# Altium footprint library CHXXX.pcblib: 121 footprints (part 4 of 8)
Each footprint in its own frame and in the unit in brackets; x right, y up, seen from the top. Pads: shape width x height; smd on the part's side, far side on the other; paste and mask are expansions set on the pad; w line width, h text height; cw(c..) or ccw(c..) is an arc to the next point about the centre after c.
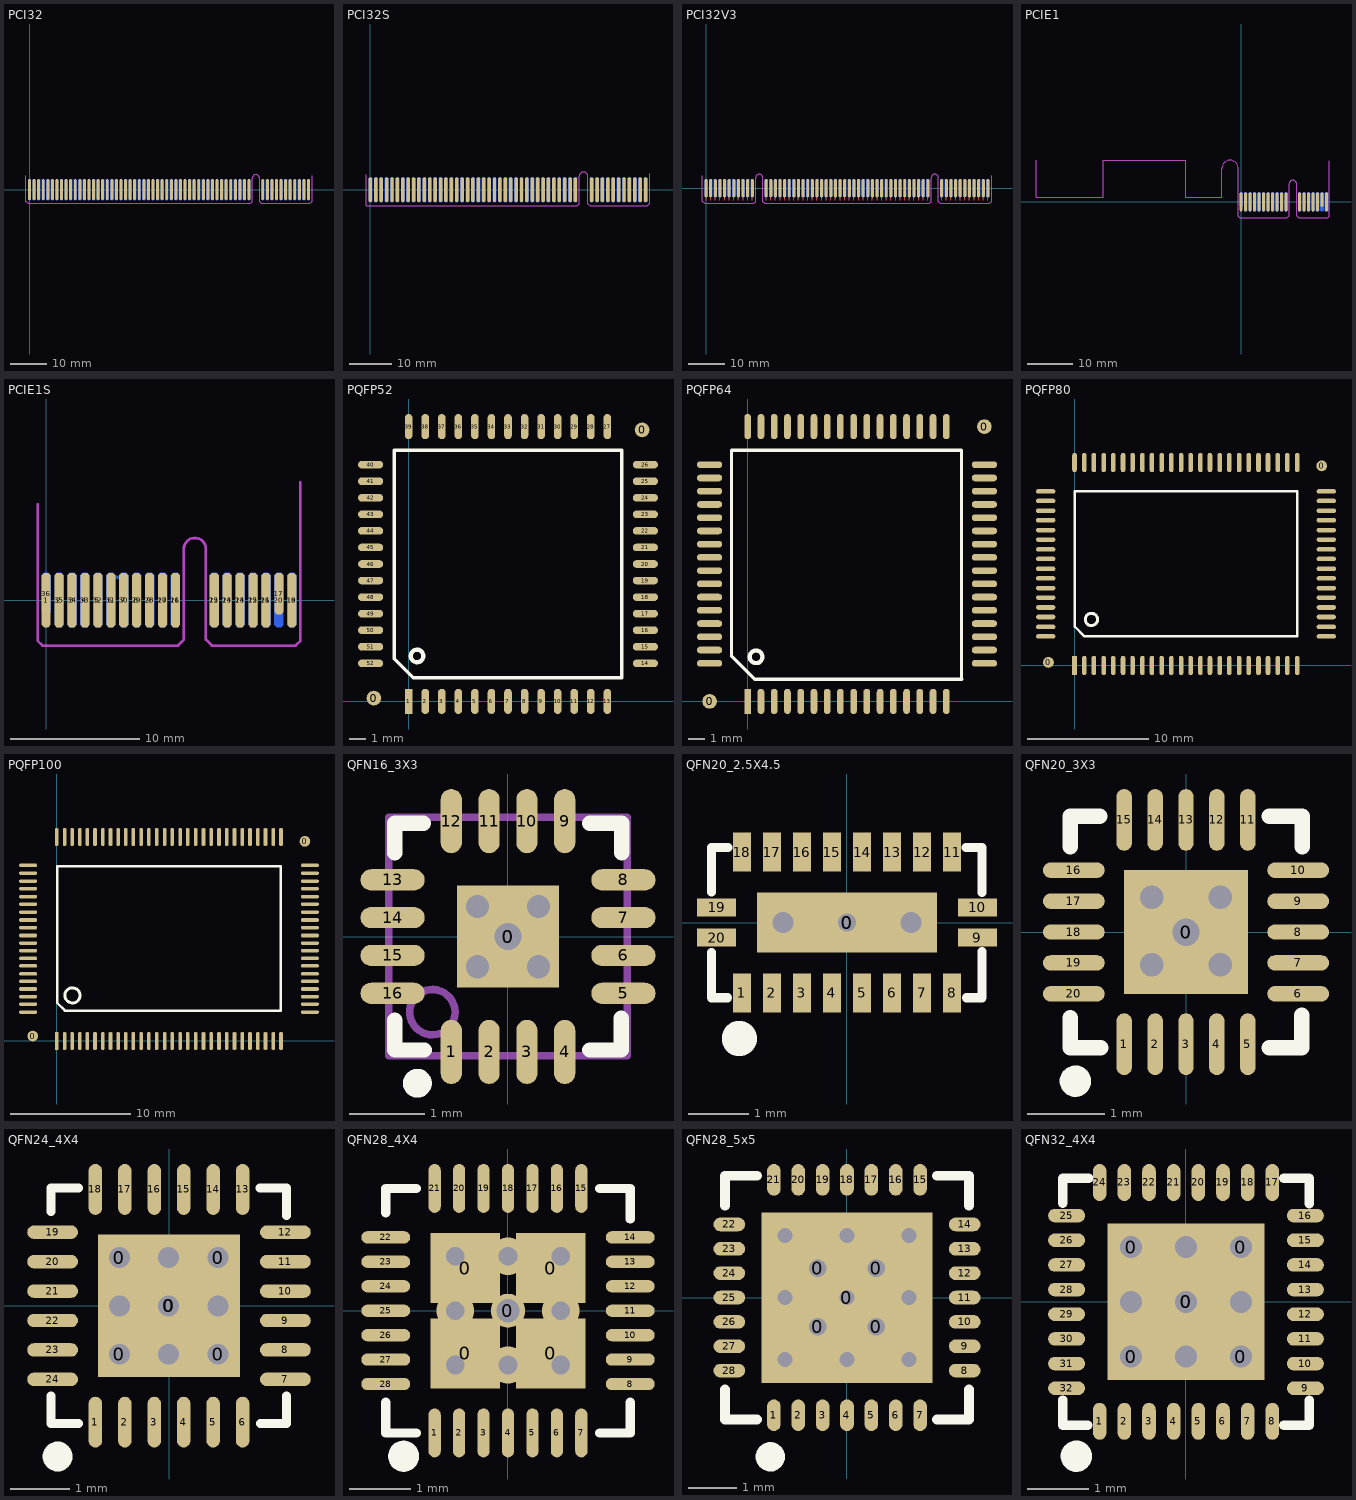
[diagram p3: the footprints below, top view; thin cyan lines are the x and y axes]

## PCI32 [mil]
pads (120):
  oct 32x230 smd: 1(0,0) 2(50,0) 3(100,0) 4(150,0) 5(200,0) 6(250,0) 7(300,0) 8(350,0) 9(400,0) 10(450,0) 11(500,0) 12(550,0) 13(600,0) 14(650,0) 15(700,0) 16(750,0) 17(800,0) 18(850,0) 19(900,0) 20(950,0) 21(1000,0) 22(1050,0) 23(1100,0) 24(1150,0) 25(1200,0) 26(1250,0) 27(1300,0) 28(1350,0) 29(1400,0) 30(1450,0) 31(1500,0) 32(1550,0) 33(1600,0) 34(1650,0) 35(1700,0) 36(1750,0) 37(1800,0) 38(1850,0) 39(1900,0) 40(1950,0) 41(2000,0) 42(2050,0) 43(2100,0) 44(2150,0) 45(2200,0) 46(2250,0) 47(2300,0) 48(2350,0) 49(2400,0) 52(2550,0) 53(2600,0) 54(2650,0) 55(2700,0) 56(2750,0) 57(2800,0) 58(2850,0) 59(2900,0) 60(2950,0) 61(3000,0) 62(3050,0)
  oct 32x230 smd far side: 63(3050,0) 64(3000,0) 65(2950,0) 66(2900,0) 67(2850,0) 68(2800,0) 69(2750,0) 70(2700,0) 71(2650,0) 72(2600,0) 73(2550,0) 76(2400,0) 77(2350,0) 78(2300,0) 79(2250,0) 80(2200,0) 81(2150,0) 82(2100,0) 83(2050,0) 84(2000,0) 85(1950,0) 86(1900,0) 87(1850,0) 88(1800,0) 89(1750,0) 90(1700,0) 91(1650,0) 92(1600,0) 93(1550,0) 94(1500,0) 95(1450,0) 96(1400,0) 97(1350,0) 98(1300,0) 99(1250,0) 100(1200,0) 101(1150,0) 102(1100,0) 103(1050,0) 104(1000,0) 105(950,0) 106(900,0) 107(850,0) 108(800,0) 109(750,0) 110(700,0) 111(650,0) 112(600,0) 113(550,0) 114(500,0) 115(450,0) 116(400,0) 117(350,0) 118(300,0) 119(250,0) 120(200,0) 121(150,0) 122(100,0) 123(50,0) 124(0,0)
TopSolder:
  rectangle: -40,-150 2435,120
  rectangle: 2515,-150 3090,120
BottomSolder:
  rectangle: 2515,-150 3090,120
  rectangle: -40,-150 2435,120
KeepOutLayer:
  lines w10: -40,150 -40,-125 -15,-150 2415,-150 2435,-130 2435,125 cw(c2475,125) 2515,125 2515,-130 2535,-150 3065,-150 3090,-125 3090,150
Mechanical1:
  lines w10: -40,150 -40,-125 -15,-150 2415,-150 2435,-130 2435,125 cw(c2475,125) 2515,125 2515,-130 2535,-150 3065,-150 3090,-125 3090,150

## PCI32S [mil]
pads (100):
  oct 32x230 smd: 11(0,0) 12(50,0) 13(100,0) 14(150,0) 15(200,0) 16(250,0) 17(300,0) 18(350,0) 19(400,0) 20(450,0) 21(500,0) 22(550,0) 23(600,0) 24(650,0) 25(700,0) 26(750,0) 27(800,0) 28(850,0) 29(900,0) 30(950,0) 31(1000,0) 32(1050,0) 33(1100,0) 34(1150,0) 35(1200,0) 36(1250,0) 37(1300,0) 38(1350,0) 39(1400,0) 40(1450,0) 41(1500,0) 42(1550,0) 43(1600,0) 44(1650,0) 45(1700,0) 46(1750,0) 47(1800,0) 48(1850,0) 49(1900,0) 52(2050,0) 53(2100,0) 54(2150,0) 55(2200,0) 56(2250,0) 57(2300,0) 58(2350,0) 59(2400,0) 60(2450,0) 61(2500,0) 62(2550,0)
  oct 32x230 smd far side: 63(2550,0) 64(2500,0) 65(2450,0) 66(2400,0) 67(2350,0) 68(2300,0) 69(2250,0) 70(2200,0) 71(2150,0) 72(2100,0) 73(2050,0) 76(1900,0) 77(1850,0) 78(1800,0) 79(1750,0) 80(1700,0) 81(1650,0) 82(1600,0) 83(1550,0) 84(1500,0) 85(1450,0) 86(1400,0) 87(1350,0) 88(1300,0) 89(1250,0) 90(1200,0) 91(1150,0) 92(1100,0) 93(1050,0) 94(1000,0) 95(950,0) 96(900,0) 97(850,0) 98(800,0) 99(750,0) 100(700,0) 101(650,0) 102(600,0) 103(550,0) 104(500,0) 105(450,0) 106(400,0) 107(350,0) 108(300,0) 109(250,0) 110(200,0) 111(150,0) 112(100,0) 113(50,0) 114(0,0)
TopSolder:
  rectangle: 2015,-150 2590,120
  rectangle: -40,-150 1935,120
BottomSolder:
  rectangle: -40,-150 1935,120
  rectangle: 2015,-150 2590,120
KeepOutLayer:
  lines w10: -40,140 -40,-150 1915,-150 1935,-130 1935,125 cw(c1975,125) 2015,125 2015,-130 2035,-150 2565,-150 2590,-125 2590,150
Mechanical1:
  lines w10: -40,140 -40,-150 1915,-150 1935,-130 1935,125 cw(c1975,125) 2015,125 2015,-130 2035,-150 2565,-150 2590,-125 2590,150

## PCI32V3 [mil]
pads (116):
  oval 32x196.85 smd: 1(0,0) 2(50,0) 3(100,0) 4(150,0) 5(200,0) 6(250,0) 7(300,0) 8(350,0) 9(400,0) 10(450,0) 11(500,0) 14(650,0) 15(700,0) 16(750,0) 17(800,0) 18(850,0) 19(900,0) 20(950,0) 21(1000,0) 22(1050,0) 23(1100,0) 24(1150,0) 25(1200,0) 26(1250,0) 27(1300,0) 28(1350,0) 29(1400,0) 30(1450,0) 31(1500,0) 32(1550,0) 33(1600,0) 34(1650,0) 35(1700,0) 36(1750,0) 37(1800,0) 38(1850,0) 39(1900,0) 40(1950,0) 41(2000,0) 42(2050,0) 43(2100,0) 44(2150,0) 45(2200,0) 46(2250,0) 47(2300,0) 48(2350,0) 49(2400,0) 52(2550,0) 53(2600,0) 54(2650,0) 55(2700,0) 56(2750,0) 57(2800,0) 58(2850,0) 59(2900,0) 60(2950,0) 61(3000,0) 62(3050,0)
  oval 32x196.85 smd far side: 63(3050,0) 64(3000,0) 65(2950,0) 66(2900,0) 67(2850,0) 68(2800,0) 69(2750,0) 70(2700,0) 71(2650,0) 72(2600,0) 73(2550,0) 76(2400,0) 77(2350,0) 78(2300,0) 79(2250,0) 80(2200,0) 81(2150,0) 82(2100,0) 83(2050,0) 84(2000,0) 85(1950,0) 86(1900,0) 87(1850,0) 88(1800,0) 89(1750,0) 90(1700,0) 91(1650,0) 92(1600,0) 93(1550,0) 94(1500,0) 95(1450,0) 96(1400,0) 97(1350,0) 98(1300,0) 99(1250,0) 100(1200,0) 101(1150,0) 102(1100,0) 103(1050,0) 104(1000,0) 105(950,0) 106(900,0) 107(850,0) 108(800,0) 109(750,0) 110(700,0) 111(650,0) 114(500,0) 115(450,0) 116(400,0) 117(350,0) 118(300,0) 119(250,0) 120(200,0) 121(150,0) 122(100,0) 123(50,0) 124(0,0)
TopLayer:
  lines w12: 0,-130 0,-78.74 ; 50,-130 50,-78.74 ; 100,-130 100,-78.74 ; 150,-130 150,-78.74 ; 200,-130 200,-78.74 ; 250,-130 250,-78.74 ; 300,-130 300,-78.74 ; 350,-130 350,-78.74 ; 400,-130 400,-78.74 ; 450,-130 450,-78.74 ; 500,-130 500,-78.74 ; 650,-130 650,-78.74 ; 700,-130 700,-78.74 ; 750,-130 750,-78.74 ; 800,-130 800,-78.74 ; 850,-130 850,-78.74 ; 900,-130 900,-78.74 ; 950,-130 950,-78.74 ; 1000,-130 1000,-78.74 ; 1050,-130 1050,-78.74 ; 1100,-130 1100,-78.74 ; 1150,-130 1150,-78.74 ; 1200,-130 1200,-78.74 ; 1250,-130 1250,-78.74 ; 1300,-130 1300,-78.74 ; 1350,-130 1350,-78.74 ; 1400,-130 1400,-78.74 ; 1450,-130 1450,-78.74 ; 1500,-130 1500,-78.74 ; 1550,-130 1550,-78.74 ; 1600,-130 1600,-78.74 ; 1650,-130 1650,-78.74 ; 1700,-130 1700,-78.74 ; 1750,-130 1750,-78.74 ; 1800,-130 1800,-78.74 ; 1850,-130 1850,-78.74 ; 1900,-130 1900,-78.74 ; 1950,-130 1950,-78.74 ; 2000,-130 2000,-78.74 ; 2050,-130 2050,-78.74 ; 2100,-130 2100,-78.74 ; 2150,-130 2150,-78.74 ; 2200,-130 2200,-78.74 ; 2250,-130 2250,-78.74 ; 2300,-130 2300,-78.74 ; 2350,-130 2350,-78.74 ; 2400,-130 2400,-78.74 ; 2550,-130 2550,-78.74 ; 2600,-130 2600,-78.74 ; 2650,-130 2650,-78.74 ; 2700,-130 2700,-78.74 ; 2750,-130 2750,-78.74 ; 2800,-130 2800,-78.74 ; 2850,-130 2850,-78.74 ; 2900,-130 2900,-78.74 ; 2950,-130 2950,-78.74 ; 3000,-130 3000,-78.74 ; 3050,-130 3050,-78.74
BottomLayer:
  lines w12: 0,-130 0,-78.74 ; 50,-130 50,-78.74 ; 100,-130 100,-78.74 ; 150,-130 150,-78.74 ; 200,-130 200,-78.74 ; 250,-130 250,-78.74 ; 300,-130 300,-78.74 ; 350,-130 350,-78.74 ; 400,-130 400,-78.74 ; 450,-130 450,-78.74 ; 500,-130 500,-78.74 ; 650,-130 650,-78.74 ; 700,-130 700,-78.74 ; 750,-130 750,-78.74 ; 800,-130 800,-78.74 ; 850,-130 850,-78.74 ; 900,-130 900,-78.74 ; 950,-130 950,-78.74 ; 1000,-130 1000,-78.74 ; 1050,-130 1050,-78.74 ; 1100,-130 1100,-78.74 ; 1150,-130 1150,-78.74 ; 1200,-130 1200,-78.74 ; 1250,-130 1250,-78.74 ; 1300,-130 1300,-78.74 ; 1350,-130 1350,-78.74 ; 1400,-130 1400,-78.74 ; 1450,-130 1450,-78.74 ; 1500,-130 1500,-78.74 ; 1550,-130 1550,-78.74 ; 1600,-130 1600,-78.74 ; 1650,-130 1650,-78.74 ; 1700,-130 1700,-78.74 ; 1750,-130 1750,-78.74 ; 1800,-130 1800,-78.74 ; 1850,-130 1850,-78.74 ; 1900,-130 1900,-78.74 ; 1950,-130 1950,-78.74 ; 2000,-130 2000,-78.74 ; 2050,-130 2050,-78.74 ; 2100,-130 2100,-78.74 ; 2150,-130 2150,-78.74 ; 2200,-130 2200,-78.74 ; 2250,-130 2250,-78.74 ; 2300,-130 2300,-78.74 ; 2350,-130 2350,-78.74 ; 2400,-130 2400,-78.74 ; 2550,-130 2550,-78.74 ; 2600,-130 2600,-78.74 ; 2650,-130 2650,-78.74 ; 2700,-130 2700,-78.74 ; 2750,-130 2750,-78.74 ; 2800,-130 2800,-78.74 ; 2850,-130 2850,-78.74 ; 2900,-130 2900,-78.74 ; 2950,-130 2950,-78.74 ; 3000,-130 3000,-78.74 ; 3050,-130 3050,-78.74
TopSolder:
  rectangle: 2515,-159 3082,110
  region: 2435,110 615,110 615,-156 2435,-156
  rectangle: -40,-160 527,109
BottomSolder:
  rectangle: 615,-168 2435,110
  rectangle: 2515,-162 3081,106
  rectangle: -39,-161 527,107
KeepOutLayer:
  lines w10: -40,135 -40,-140 -15,-165 515,-165 535,-145 535,110 cw(c575,110) 615,110 615,-145 635,-165 2415,-165 2435,-145 2435,110 cw(c2475,110) 2515,110 2515,-145 2535,-165 3065,-165 3090,-140 3090,135
Mechanical1:
  lines w10: -40,135 -40,-140 -15,-165 515,-165 535,-145 535,110 cw(c575,110) 615,110 615,-145 635,-165 2415,-165 2435,-145 2435,110 cw(c2475,110) 2515,110 2515,-145 2535,-165 3065,-165 3090,-140 3090,135

## PCIE1 [mm]
pads (36):
  oct 0.7x4.2 smd: 1(0,0) 2(1,0) 3(2,0) 4(3,0) 5(4,0) 6(5,0) 7(6,0) 8(7,0) 9(8,0) 10(9,0) 11(10,0) 12(13,0) 13(14,0) 14(15,0) 15(16,0) 16(17,0) 18(19,0)
  oct 0.7x3.2 smd: 17(18,0.5)
  oct 0.7x4.2 smd far side: 19(19,0) 20(18,0) 21(17,0) 22(16,0) 23(15,0) 24(14,0) 25(13,0) 26(10,0) 27(9,0) 28(8,0) 29(7,0) 30(6,0) 31(5,0) 32(4,0) 33(3,0) 34(2,0) 35(1,0)
  oct 0.7x3.2 smd far side: 36(0,0.5)
KeepOutLayer:
  lines w0.2: -45.644,9.233 -45.644,0.983 -30.644,0.983 -30.644,9.233 -12.3,9.233 -12.3,0.983 -4.3,0.983 -4.3,7.414 cw(c-2.475,7.414) -0.65,7.414 -0.65,-3.149 -0.294,-3.504 ; -0.288,-3.517 10.194,-3.517 ; 10.194,-3.504 10.652,-3.047 10.652,3.988 ; 10.649,3.953 cw(c11.5,3.953) 12.351,3.953 ; 12.348,3.988 12.348,-3.045 12.806,-3.502 ; 12.808,-3.517 19.294,-3.517 ; 19.294,-3.504 19.65,-3.149 19.65,9.101
Mechanical1:
  lines w0.2: -45.644,9.233 -45.644,0.983 -30.644,0.983 -30.644,9.233 -12.3,9.233 -12.3,0.983 -4.3,0.983 -4.3,7.414 ; 10.649,3.953 10.649,-3.045 10.652,-3.047 10.188,-3.511 -0.288,-3.511 -0.65,-3.149 -0.65,7.414 ccw(c-2.475,7.414) -4.3,7.414 ; 10.652,3.988 cw(c11.5,3.953) 12.349,3.953 ; 12.351,3.953 12.351,-3.042 12.808,-3.499 19.277,-3.499 19.628,-3.149 19.628,9.079 ; -4.3,7.414 -4.3,7.414

## PCIE1S [mm]
pads (36):
  oct 0.7x4.2 smd: 1(0,0) 2(1,0) 3(2,0) 4(3,0) 5(4,0) 6(5,0) 7(6,0) 8(7,0) 9(8,0) 10(9,0) 11(10,0) 12(13,0) 13(14,0) 14(15,0) 15(16,0) 16(17,0) 18(19,0)
  oct 0.7x3.2 smd: 17(18,0.5)
  oct 0.7x4.2 smd far side: 19(19,0) 20(18,0) 21(17,0) 22(16,0) 23(15,0) 24(14,0) 25(13,0) 26(10,0) 27(9,0) 28(8,0) 29(7,0) 30(6,0) 31(5,0) 32(4,0) 33(3,0) 34(2,0) 35(1,0)
  oct 0.7x3.2 smd far side: 36(0,0.5)
BottomLayer:
  lines w0.254: 5.08,1.778 5.842,1.778
KeepOutLayer:
  lines w0.2: -0.65,7.414 -0.65,-3.149 -0.294,-3.504 ; -0.288,-3.517 10.194,-3.517 ; 10.194,-3.504 10.652,-3.047 10.652,3.988 ; 10.649,3.953 cw(c11.5,3.953) 12.351,3.953 ; 12.348,3.988 12.348,-3.045 12.821,-3.517 19.294,-3.517 ; 19.294,-3.504 19.65,-3.149 19.65,9.101
Mechanical1:
  lines w0.2: -0.65,7.414 -0.65,-3.149 -0.65,-3.155 -0.288,-3.517 10.194,-3.517 10.652,-3.06 10.652,3.953 cw(c11.5,3.953) 12.349,3.953 ; 12.348,-3.045 12.353,-3.045 12.826,-3.517 19.294,-3.517 19.65,-3.161 19.65,-3.149 19.65,9.101 ; 12.351,-3.042 12.351,3.953

## PQFP52 [mil]
pads (54):
  round 35 smd: 0(-82.68,7.87) 0(555.12,645.67)
  rect 18x60 smd: 1(0,0)
  oval 18x60 smd: 2(39.37,0) 3(78.74,0) 4(118.11,0) 5(157.48,0) 6(196.85,0) 7(236.22,0) 8(275.59,0) 9(314.96,0) 10(354.33,0) 11(393.7,0) 12(433.07,0) 13(472.44,0) 27(472.44,653.54) 28(433.07,653.54) 29(393.7,653.54) 30(354.33,653.54) 31(314.96,653.54) 32(275.59,653.54) 33(236.22,653.54) 34(196.85,653.54) 35(157.48,653.54) 36(118.11,653.54) 37(78.74,653.54) 38(39.37,653.54) 39(0,653.54)
  oval 60x18 smd: 14(562.99,90.55) 15(562.99,129.92) 16(562.99,169.29) 17(562.99,208.66) 18(562.99,248.03) 19(562.99,287.4) 20(562.99,326.77) 21(562.99,366.14) 22(562.99,405.51) 23(562.99,444.88) 24(562.99,484.25) 25(562.99,523.62) 26(562.99,562.99) 40(-90.55,562.99) 41(-90.55,523.62) 42(-90.55,484.25) 43(-90.55,444.88) 44(-90.55,405.51) 45(-90.55,366.14) 46(-90.55,326.77) 47(-90.55,287.4) 48(-90.55,248.03) 49(-90.55,208.66) 50(-90.55,169.29) 51(-90.55,129.92) 52(-90.55,90.55)
TopOverlay:
  circle w10: c20,108 r15
  lines w7.87: -34.06,101.18 10.63,56.5 506.5,56.5 506.5,597.05 -34.06,597.05 -34.06,101.18

## PQFP64 [mil]
pads (66):
  round 35 smd: 0(-90.55,0) 0(562.99,653.54)
  rect 16x60 smd: 1(0,0)
  oval 16x60 smd: 2(31.5,0) 3(62.99,0) 4(94.49,0) 5(125.98,0) 6(157.48,0) 7(188.98,0) 8(220.47,0) 9(251.97,0) 10(283.46,0) 11(314.96,0) 12(346.46,0) 13(377.95,0) 14(409.45,0) 15(440.94,0) 16(472.44,0) 33(472.44,653.54) 34(440.94,653.54) 35(409.45,653.54) 36(377.95,653.54) 37(346.46,653.54) 38(314.96,653.54) 39(283.46,653.54) 40(251.97,653.54) 41(220.47,653.54) 42(188.98,653.54) 43(157.48,653.54) 44(125.98,653.54) 45(94.49,653.54) 46(62.99,653.54) 47(31.5,653.54) 48(0,653.54)
  oval 60x16 smd: 17(562.99,90.55) 18(562.99,122.05) 19(562.99,153.54) 20(562.99,185.04) 21(562.99,216.54) 22(562.99,248.03) 23(562.99,279.53) 24(562.99,311.02) 25(562.99,342.52) 26(562.99,374.02) 27(562.99,405.51) 28(562.99,437.01) 29(562.99,468.5) 30(562.99,500) 31(562.99,531.5) 32(562.99,562.99) 49(-90.55,562.99) 50(-90.55,531.5) 51(-90.55,500) 52(-90.55,468.5) 53(-90.55,437.01) 54(-90.55,405.51) 55(-90.55,374.02) 56(-90.55,342.52) 57(-90.55,311.02) 58(-90.55,279.53) 59(-90.55,248.03) 60(-90.55,216.54) 61(-90.55,185.04) 62(-90.55,153.54) 63(-90.55,122.05) 64(-90.55,90.55)
TopOverlay:
  circle w10: c20,106 r15
  lines w7.87: -38.34,107.06 -38.34,597.65 508.78,597.65 508.78,52.53
  lines w8: -38.34,107.06 -38.05,107.06 16.47,52.53 508.78,52.53

## PQFP80 [mil]
pads (82):
  round 35 smd: 0(-85,10) 0(805,650)
  rect 15x63 smd: 1(0,0)
  oval 15x63 smd: 2(32,0) 3(63,0) 4(95,0) 5(126,0) 6(158,0) 7(189,0) 8(221,0) 9(252,0) 10(284,0) 11(315,0) 12(347,0) 13(378,0) 14(410,0) 15(441,0) 16(473,0) 17(504,0) 18(536,0) 19(567,0) 20(599,0) 21(630,0) 22(662,0) 23(693,0) 24(725,0) 41(725,661) 42(693,661) 43(662,661) 44(630,661) 45(599,661) 46(567,661) 47(536,661) 48(504,661) 49(473,661) 50(441,661) 51(410,661) 52(378,661) 53(347,661) 54(315,661) 55(284,661) 56(252,661) 57(221,661) 58(189,661) 59(158,661) 60(126,661) 61(95,661) 62(63,661) 63(32,661) 64(0,661)
  oval 63x15 smd: 25(820,95) 26(820,126) 27(820,158) 28(820,189) 29(820,221) 30(820,252) 31(820,284) 32(820,315) 33(820,347) 34(820,378) 35(820,410) 36(820,441) 37(820,473) 38(820,504) 39(820,536) 40(820,567) 65(-94,567) 66(-94,536) 67(-94,504) 68(-94,473) 69(-94,441) 70(-94,410) 71(-94,378) 72(-94,347) 73(-94,315) 74(-94,284) 75(-94,252) 76(-94,221) 77(-94,189) 78(-94,158) 79(-94,126) 80(-94,95)
TopOverlay:
  circle w10: c55,150 r20
  lines w8: 0,126 0,567 725,567 725,95 32,95 1,126

## PQFP100 [mil]
pads (102):
  round 35 smd: 0(-78.74,16.26) 0(816.74,656.74)
  rect 12x60 smd: 1(0,0)
  oct 12x60 smd: 2(26,0) 3(51,0) 4(76,0) 5(101,0) 6(126,0) 7(152,0) 8(177,0) 9(202,0) 10(227,0) 11(252,0) 12(278,0) 13(303,0) 14(329,0) 15(355,0) 16(380,0) 17(406,0) 18(431,0) 19(457,0) 20(483,0) 21(508,0) 22(534,0) 23(559,0) 24(585,0) 25(611,0) 26(636,0) 27(662,0) 28(687,0) 29(713,0) 30(738,0) 51(738,671) 52(713,671) 53(687,671) 54(662,671) 55(636,671) 56(611,671) 57(585,671) 58(559,671) 59(534,671) 60(508,671) 61(483,671) 62(457,671) 63(431,671) 64(406,671) 65(380,671) 66(355,671) 67(329,671) 68(303,671) 69(278,671) 70(252,671) 71(227,671) 72(202,671) 73(177,671) 74(152,671) 75(126,671) 76(101,671) 77(76,671) 78(51,671) 79(26,671) 80(0,671)
  oct 60x12 smd: 31(833,95) 32(833,121) 33(833,146) 34(833,171) 35(833,196) 36(833,221) 37(833,247) 38(833,272) 39(833,297) 40(833,322) 41(833,347) 42(833,373) 43(833,398) 44(833,424) 45(833,450) 46(833,475) 47(833,501) 48(833,526) 49(833,552) 50(833,578) 81(-94,578) 82(-94,552) 83(-94,526) 84(-94,501) 85(-94,475) 86(-94,450) 87(-94,424) 88(-94,398) 89(-94,373) 90(-94,347) 91(-94,322) 92(-94,297) 93(-94,272) 94(-94,247) 95(-94,221) 96(-94,196) 97(-94,171) 98(-94,146) 99(-94,121) 100(-94,95)
TopOverlay:
  circle w10: c52,150 r25
  lines w8: 2,125 27,100 737,100 737,575 2,575 2,125

## QFN16_3X3 [mm]
pads (18):
  rect 1.35x1.35 smd mask+0.051: 0(0,0)
  round 0.508 hole 0.356: 0(0,0)
  oval 0.28x0.85 smd mask+0.051: 1(-0.75,-1.526) 2(-0.25,-1.526) 3(0.25,-1.526) 4(0.75,-1.526) 9(0.75,1.526) 10(0.25,1.526) 11(-0.25,1.526) 12(-0.75,1.526)
  oval 0.85x0.28 smd mask+0.051: 5(1.526,-0.75) 6(1.526,-0.25) 7(1.526,0.25) 8(1.526,0.75) 13(-1.526,0.75) 14(-1.526,0.25) 15(-1.526,-0.25) 16(-1.526,-0.75)
via -0.405,-0.399 diameter 0.508 hole 0.305
via 0.405,-0.399 diameter 0.508 hole 0.305
via 0.405,0.399 diameter 0.508 hole 0.305
via -0.405,0.399 diameter 0.508 hole 0.305
TopOverlay:
  circle w0.229: c-1.198,-1.94 r0.076
  lines w0.203: -1.497,-1.108 -1.497,-1.5 -1.105,-1.5 ; -1.497,1.105 -1.497,1.5 -1.118,1.5 ; 1.079,-1.5 1.5,-1.5 1.5,-1.08 ; 1.082,1.5 1.503,1.5 1.503,1.108
Mechanical13:
  circle w0.1: c-1,-1 r0.3
  lines w0.1: -1.575,-1.575 -1.575,1.575 1.575,1.575 1.575,-1.575 -1.575,-1.575
3D body: height 0.25, standoff 0, extent -1.521,-1.519 1.521,1.523

## QFN20_2.5X4.5 [mm]
pads (22):
  rect 3x1 smd: 0(0,0)
  round 0.559 hole 0.305 mask+0.102: 0(0,0)
  rect 0.3x0.65 smd: 1(-1.75,-1.17) 2(-1.25,-1.17) 3(-0.75,-1.17) 4(-0.25,-1.17) 5(0.25,-1.17) 6(0.75,-1.17) 7(1.25,-1.17) 8(1.75,-1.17) 11(1.75,1.17) 12(1.25,1.17) 13(0.75,1.17) 14(0.25,1.17) 15(-0.25,1.17) 16(-0.75,1.17) 17(-1.25,1.17) 18(-1.75,1.17)
  rect 0.65x0.3 smd: 9(2.17,-0.25) 10(2.17,0.25) 19(-2.17,0.25) 20(-2.17,-0.25)
via 1.064,0 diameter 0.508 hole 0.356
via -1.064,0 diameter 0.508 hole 0.356
TopOverlay:
  circle w0.35: c-1.79,-1.93 r0.118
  lines w0.152: -2.257,-0.5 -2.257,-1.251 -1.99,-1.251 ; -2.257,0.51 -2.257,1.249 -1.98,1.249 ; 1.98,1.249 2.243,1.249 2.243,0.5 ; 1.99,-1.251 2.243,-1.251 2.243,-0.48

## QFN20_3X3 [mm]
pads (22):
  rect 1.6x1.6 smd: 0(0,0)
  round 0.508 hole 0.356: 0(0,0)
  oval 0.2x0.8 smd: 1(-0.8,-1.451) 2(-0.4,-1.451) 3(0,-1.451) 4(0.4,-1.451) 5(0.8,-1.451) 11(0.8,1.451) 12(0.4,1.451) 13(0,1.451) 14(-0.4,1.451) 15(-0.8,1.451)
  oval 0.8x0.2 smd: 6(1.451,-0.8) 7(1.451,-0.4) 8(1.451,0) 9(1.451,0.4) 10(1.451,0.8) 16(-1.451,0.8) 17(-1.451,0.4) 18(-1.451,0) 19(-1.451,-0.4) 20(-1.451,-0.8)
via 0.442,0.449 diameter 0.508 hole 0.305
via -0.442,-0.422 diameter 0.508 hole 0.305
via -0.442,0.449 diameter 0.508 hole 0.305
via 0.442,-0.422 diameter 0.508 hole 0.305
TopOverlay:
  circle w0.203: c-1.431,-1.93 r0.102
  lines w0.203: -1.497,-1.108 -1.497,-1.5 -1.105,-1.5 ; -1.497,1.105 -1.497,1.5 -1.118,1.5 ; 1.079,-1.5 1.5,-1.5 1.5,-1.08 ; 1.082,1.5 1.503,1.5 1.503,1.108

## QFN24_4X4 [mil]
pads (30):
  round 20 hole 14: 0(-33.21,-32.4) 0(-33.21,32.2) 0(-0.21,-0.1) 0(32.79,-32.4) 0(32.79,32.2)
  rect 95x95 smd: 0(0,0)
  oval 9x34 smd: 1(-49.21,-77.8) 2(-29.53,-77.8) 3(-9.84,-77.8) 4(9.84,-77.8) 5(29.53,-77.8) 6(49.21,-77.8) 13(49.21,77.8) 14(29.53,77.8) 15(9.84,77.8) 16(-9.84,77.8) 17(-29.53,77.8) 18(-49.21,77.8)
  oval 34x9 smd: 7(77.8,-49.21) 8(77.8,-29.53) 9(77.8,-9.84) 10(77.8,9.84) 11(77.8,29.53) 12(77.8,49.21) 19(-77.8,49.21) 20(-77.8,29.53) 21(-77.8,9.84) 22(-77.8,-9.84) 23(-77.8,-29.53) 24(-77.8,-49.21)
via -0.21,32.2 diameter 20 hole 14
via -33.21,-0.1 diameter 20 hole 14
via -0.21,-32.4 diameter 20 hole 14
via 32.79,-0.1 diameter 20 hole 14
TopOverlay:
  circle w10: c-74.48,-100.79 r5
  lines w6: -78.98,-60.44 -78.98,-78.76 -60.53,-78.76 ; -78.98,62.97 -78.98,78.72 -60.48,78.72 ; 60.67,78.72 78.5,78.72 78.5,60.39 ; 61.05,-78.76 78.5,-78.76 78.5,-60.43

## QFN28_4X4 [mm]
pads (33):
  rect 1.143x1.143 smd mask+0: 0(-0.699,-0.699) 0(-0.699,0.698) 0(0.699,-0.699) 0(0.699,0.698)
  round 0.559 hole 0.381 mask+0.102: 0(0,0)
  oval 0.2x0.8 smd: 1(-1.2,-2) 2(-0.8,-2) 3(-0.4,-2) 4(0,-2) 5(0.4,-2) 6(0.8,-2) 7(1.2,-2) 15(1.2,2) 16(0.8,2) 17(0.4,2) 18(0,2) 19(-0.4,2) 20(-0.8,2) 21(-1.2,2)
  oval 0.8x0.2 smd: 8(2,-1.2) 9(2,-0.8) 10(2,-0.4) 11(2,0) 12(2,0.4) 13(2,0.8) 14(2,1.2) 22(-2,1.2) 23(-2,0.8) 24(-2,0.4) 25(-2,0) 26(-2,-0.4) 27(-2,-0.8) 28(-2,-1.2)
via 0,0.889 diameter 0.61 hole 0.305
via 0,-0.889 diameter 0.61 hole 0.305
via 0.864,0 diameter 0.61 hole 0.305
via -0.864,0 diameter 0.61 hole 0.305
via -0.864,0.889 diameter 0.61 hole 0.305
via 0.864,0.889 diameter 0.61 hole 0.305
via 0.864,-0.889 diameter 0.61 hole 0.305
via -0.864,-0.889 diameter 0.61 hole 0.305
TopOverlay:
  circle w0.254: c-1.708,-2.381 r0.127
  lines w0.152: -2,-1.5 -2,-2 -1.5,-2 ; -2,1.6 -2,2 -1.5,2 ; 1.5,-2 2,-2 2,-1.5 ; 1.5,2 2,2 2,1.5

## QFN28_5x5 [mm]
pads (33):
  round 0.508 hole 0.356: 0(-0.6,-0.6) 0(-0.6,0.6) 0(0.6,-0.6) 0(0.6,0.6)
  rect 3.5x3.5 smd: 0(0,0)
  oval 0.28x0.65 smd: 1(-1.5,-2.416) 2(-1,-2.416) 3(-0.5,-2.416) 4(0,-2.416) 5(0.5,-2.416) 6(1,-2.416) 7(1.5,-2.416) 15(1.5,2.416) 16(1,2.416) 17(0.5,2.416) 18(0,2.416) 19(-0.5,2.416) 20(-1,2.416) 21(-1.5,2.416)
  oval 0.65x0.28 smd: 8(2.416,-1.5) 9(2.416,-1) 10(2.416,-0.5) 11(2.416,0) 12(2.416,0.5) 13(2.416,1) 14(2.416,1.5) 22(-2.416,1.5) 23(-2.416,1) 24(-2.416,0.5) 25(-2.416,0) 26(-2.416,-0.5) 27(-2.416,-1) 28(-2.416,-1.5)
via 0,0 diameter 0.61 hole 0.305
via -1.27,1.27 diameter 0.61 hole 0.305
via -1.27,0 diameter 0.61 hole 0.305
via -1.27,-1.27 diameter 0.61 hole 0.305
via 0,-1.27 diameter 0.61 hole 0.305
via 1.27,-1.27 diameter 0.61 hole 0.305
via 1.27,0 diameter 0.61 hole 0.305
via 1.27,1.27 diameter 0.61 hole 0.305
via 0,1.27 diameter 0.61 hole 0.305
TopOverlay:
  circle w0.305: c-1.573,-3.268 r0.148
  lines w0.203: -2.5,-1.885 -2.5,-2.5 -1.85,-2.5 ; -2.5,1.885 -2.5,2.5 -1.85,2.5 ; 1.85,-2.5 2.5,-2.5 2.5,-1.885 ; 1.85,2.5 2.5,2.5 2.5,1.885

## QFN32_4X4 [mm]
pads (38):
  round 0.508 hole 0.356: 0(-0.889,-0.887) 0(-0.889,0.887) 0(0,0) 0(0.889,-0.887) 0(0.889,0.887)
  rect 2.54x2.54 smd: 0(0,0)
  oval 0.22x0.6 smd: 1(-1.4,-1.936) 2(-1,-1.936) 3(-0.6,-1.936) 4(-0.2,-1.936) 5(0.2,-1.936) 6(0.6,-1.936) 7(1,-1.936) 8(1.4,-1.936) 17(1.4,1.936) 18(1,1.936) 19(0.6,1.936) 20(0.2,1.936) 21(-0.2,1.936) 22(-0.6,1.936) 23(-1,1.936) 24(-1.4,1.936)
  oval 0.6x0.22 smd: 9(1.936,-1.4) 10(1.936,-1) 11(1.936,-0.6) 12(1.936,-0.2) 13(1.936,0.2) 14(1.936,0.6) 15(1.936,1) 16(1.936,1.4) 25(-1.936,1.4) 26(-1.936,1) 27(-1.936,0.6) 28(-1.936,0.2) 29(-1.936,-0.2) 30(-1.936,-0.6) 31(-1.936,-1) 32(-1.936,-1.4)
via 0,0.887 diameter 0.508 hole 0.356
via -0.889,0 diameter 0.508 hole 0.356
via 0,-0.887 diameter 0.508 hole 0.356
via 0.889,0 diameter 0.508 hole 0.356
TopOverlay:
  circle w0.254: c-1.78,-2.502 r0.127
  lines w0.152: -2.001,-1.591 -2.001,-1.998 -1.595,-1.998 ; -2.001,1.602 -2.001,2.002 -1.574,2.002 ; 1.583,2.002 1.999,2.002 1.999,1.59 ; 1.585,-1.998 1.999,-1.998 1.999,-1.593